# EAGLE library part LM386 (library ScottSilver)
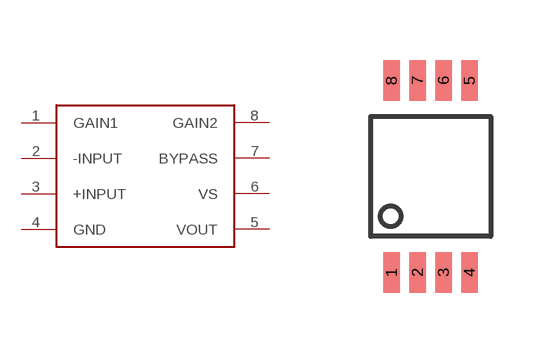
[diagram p7: symbol with the pads of LM386; footprint LM386]

Designator prefix -

## LM386  [LM386]
1  GAIN1
2  -INPUT
3  +INPUT
4  GND
5  VOUT
6  VS
7  BYPASS
8  GAIN2

## Footprint LM386 (pad centres in mm)
smd 0.41 x 1.02: 1 -0.975,-2.4; 2 -0.325,-2.4; 3 0.325,-2.4; 4 0.975,-2.4; 5 0.975,2.4; 6 0.325,2.4; 7 -0.325,2.4; 8 -0.975,2.4